# EAGLE library part 14SEG_DISP_KCPSA04-123 (library 000_nl2)
KINGBRIGHT KCPSA04-123 LED, ALPHA-NUM, 10.16MM http://uk.farnell.com/kingbright/kcpsa04-123/led-alpha-num-10-16mm-green/dp/2449713 http://www.farnell.com/datasheets/1853449.pdf
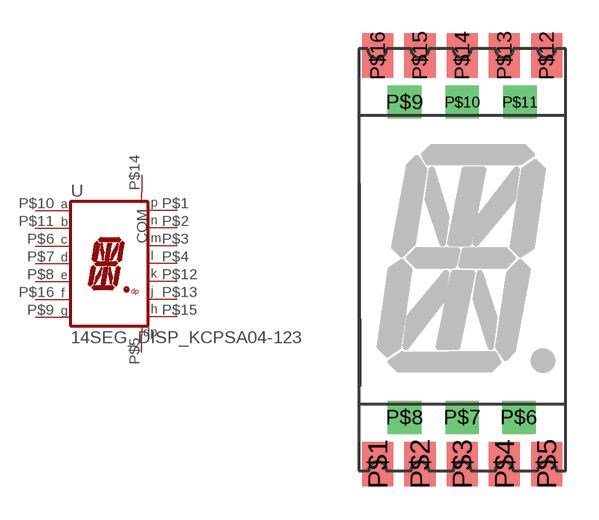
[diagram p32: symbol with the pads of KCPSA04-123; footprint KCPSA04-123]

Designator prefix -

## 14SEG_DISP_KCPSA04-123  [KCPSA04-123]
P$1  P  pas
P$2  N  pas
P$3  M  pas
P$4  L  pas
P$5  DP  pas
P$6  C  pas
P$7  D  pas
P$8  E  pas
P$9  G  pas
P$10  A  pas
P$11  B  pas
P$12  K  pas
P$13  J  pas
P$14  COM  pas
P$15  H  pas
P$16  F  pas

## Footprint KCPSA04-123 (pad centres in mm)
KINGBRIGHT LED DISPLAY, ALPHA-NUM 10.16MM Surface Mount 14 Segment KCPSA04-123 http://www.farnell.com/datasheets/1853449.pdf
smd 1.4 x 2: P$1 0.85,0.3; P$2 2.75,0.3; P$3 4.65,0.3; P$4 6.55,0.3; P$5 8.45,0.3; P$12 8.45,18.7; P$13 6.55,18.7; P$14 4.65,18.7; P$15 2.75,18.7; P$16 0.85,18.7
drill 0.8 pad 1.5 square: P$6 7.2,2.4; P$7 4.65,2.4; P$8 2.05,2.4; P$9 2.05,16.6; P$10 4.65,16.6; P$11 7.25,16.6